# EAGLE library part TTGOT-SIM7600G-H (library TTGOT-SIM7600G-H)
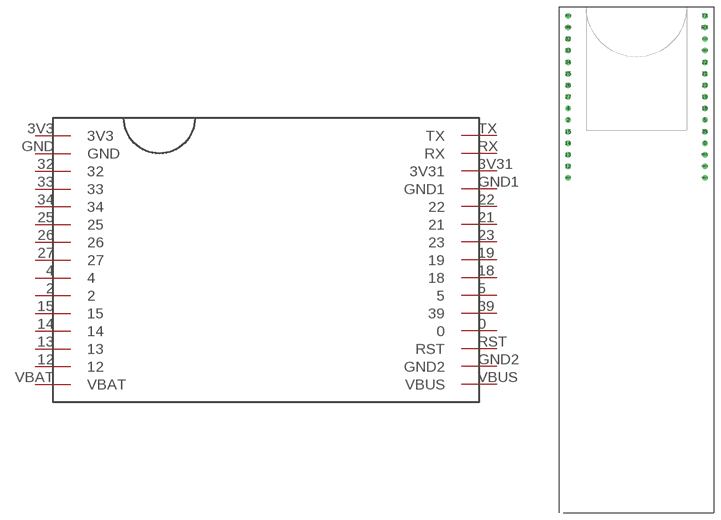
[diagram p0: symbol with the pads of TTGOT-SIM7600G-H; footprint TTGOT-SIM7600G-H]

Designator prefix -

## TTGOT-SIM7600G-H  [TTGOT-SIM7600G-H]
0  0
2  2
3V3  3V3
3V31  3V31
4  4
5  5
12  12
13  13
14  14
15  15
18  18
19  19
21  21
22  22
23  23
25  25
26  26
27  27
32  32
33  33
34  34
39  39
GND  GND
GND1  GND1
GND2  GND2
RST  RST
RX  RX
TX  TX
VBAT  VBAT
VBUS  VBUS

## Footprint TTGOT-SIM7600G-H (pad centres in mm)
drill 0.7: 0 30,-27.94; 2 0,-22.86; 3V3 0,0; 3V31 30,-5.08; 4 0,-20.32; 5 30,-22.86; 12 0,-33.02; 13 0,-30.48; 14 0,-27.94; 15 0,-25.4; 18 30,-20.32; 19 30,-17.78; 21 30,-12.7; 22 30,-10.16; 23 30,-15.24; 25 0,-12.7; 26 0,-15.24; 27 0,-17.78; 32 0,-5.08; 33 0,-7.62; 34 0,-10.16; 39 30,-25.4; GND 0,-2.54; GND1 30,-7.62; GND2 30,-33.02; RST 30,-30.48; RX 30,-2.54; TX 30,0; VBAT 0,-35.56; VBUS 30,-35.56